# EAGLE library part SN74AVC4T245 (library untitled)
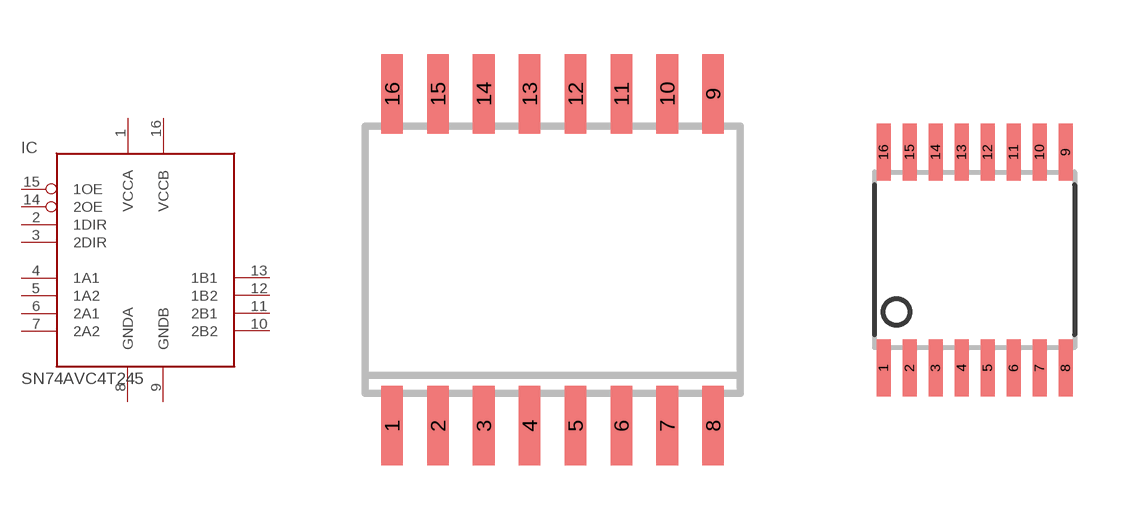
[diagram p53: symbol with the pads of SOIC16W; footprints SOIC16W, TSSOP16]

Designator prefix IC

## SN74AVC4T245  [SOIC16W]
1  VCCA  pwr
2  1DIR
3  2DIR
4  1A1
5  1A2
6  2A1
7  2A2
8  GNDA  pwr
9  GNDB  pwr
10  2B2
11  2B1
12  1B2
13  1B1
14  2OE
15  1OE
16  VCCB  pwr

## SN74AVC4T245PW  [TSSOP16]
Pads as for SOIC16W

## Footprint SOIC16W (pad centres in mm)
smd 0.6 x 2.2: 1 -4.445,-4.6; 2 -3.175,-4.6; 3 -1.905,-4.6; 4 -0.635,-4.6; 5 0.635,-4.6; 6 1.905,-4.6; 7 3.175,-4.6; 8 4.445,-4.6; 9 4.445,4.6; 10 3.175,4.6; 11 1.905,4.6; 12 0.635,4.6; 13 -0.635,4.6; 14 -1.905,4.6; 15 -3.175,4.6; 16 -4.445,4.6

## Footprint TSSOP16 (pad centres in mm)
smd 0.35 x 1.43: 1 -2.275,-2.7; 2 -1.625,-2.7; 3 -0.975,-2.7; 4 -0.325,-2.7; 5 0.325,-2.7; 6 0.975,-2.7; 7 1.625,-2.7; 8 2.275,-2.7; 9 2.275,2.7; 10 1.625,2.7; 11 0.975,2.7; 12 0.325,2.7; 13 -0.325,2.7; 14 -0.975,2.7; 15 -1.625,2.7; 16 -2.275,2.7